# Altium schematic symbol library MC34063AD.SchLib: 1 symbol
Pins are listed as number, name and electrical type; pins without a type are passive.

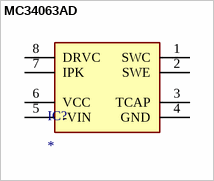
[diagram p0: symbol MC34063AD]

## MC34063AD
designator IC?
Integrated Circuit; Manufacturer_Name: Texas Instruments; Manufacturer_Part_Number: MC34063AD; Datasheet Link: http://www.ti.com/lit/gpn/mc34063a; Height: 1.75mm; Mouser Part Number: 595-MC34063AD; Mouser Price/Stock: https://www.mouser.co.uk/ProductDetail/Texas-Instruments/MC34063AD?qs=paYhMW8qfiu9F0uJ%2FIS%252Baw%3D%3D; RS Part Number: 6618436P; RS Price/Stock: http://uk.rs-online.com/web/p/products/6618436P
footprint SOIC127P600X175-8N
pins: 1 SWC, 2 SWE, 3 TCAP, 4 GND (power), 5 -VIN, 6 VCC (power), 7 IPK, 8 DRVC